# Altium footprint library NGFF-SMD_APCI0078-P002A.PcbLib: 1 footprints
Each footprint in its own frame and in the unit in brackets; x right, y up, seen from the top. Pads: shape width x height; smd on the part's side, far side on the other; paste and mask are expansions set on the pad; w line width, h text height; cw(c..) or ccw(c..) is an arc to the next point about the centre after c.
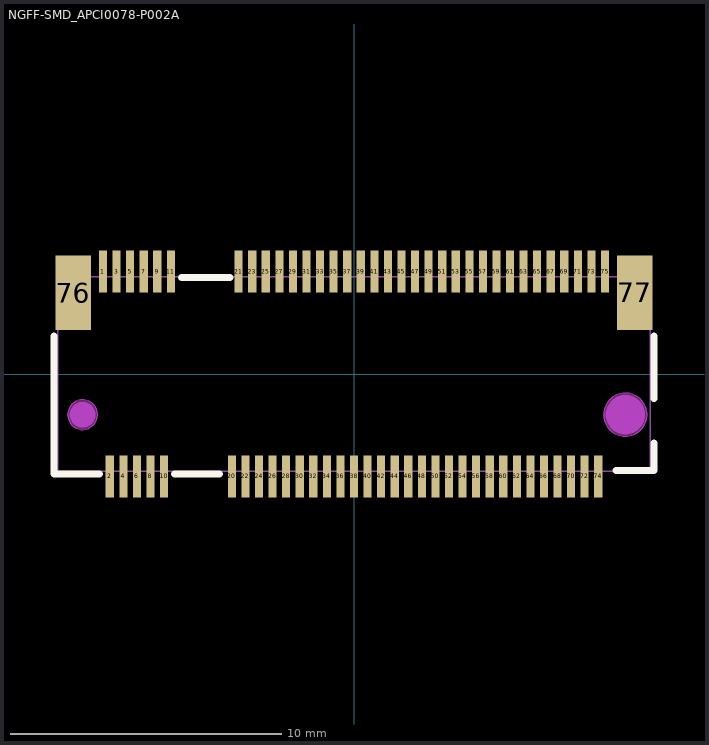
[diagram p0: the footprint, top view; thin cyan lines are the x and y axes]

## NGFF-SMD_APCI0078-P002A [mm]
pads (69):
  rect 0.3x1.55 smd: 1(-9.25,3.775) 2(-9,-3.775) 3(-8.75,3.775) 4(-8.5,-3.775) 5(-8.25,3.775) 6(-8,-3.775) 7(-7.75,3.775) 8(-7.5,-3.775) 9(-7.25,3.775) 10(-7,-3.775) 11(-6.75,3.775) 20(-4.5,-3.775) 21(-4.25,3.775) 22(-4,-3.775) 23(-3.75,3.775) 24(-3.5,-3.775) 25(-3.25,3.775) 26(-3,-3.775) 27(-2.75,3.775) 28(-2.5,-3.775) 29(-2.25,3.775) 30(-2,-3.775) 31(-1.75,3.775) 32(-1.5,-3.775) 33(-1.25,3.775) 34(-1,-3.775) 35(-0.75,3.775) 36(-0.5,-3.775) 37(-0.25,3.775) 38(0,-3.775) 39(0.25,3.775) 40(0.5,-3.775) 41(0.75,3.775) 42(1,-3.775) 43(1.25,3.775) 44(1.5,-3.775) 45(1.75,3.775) 46(2,-3.775) 47(2.25,3.775) 48(2.5,-3.775) 49(2.75,3.775) 50(3,-3.775) 51(3.25,3.775) 52(3.5,-3.775) 53(3.75,3.775) 54(4,-3.775) 55(4.25,3.775) 56(4.5,-3.775) 57(4.75,3.775) 58(5,-3.775) 59(5.25,3.775) 60(5.5,-3.775) 61(5.75,3.775) 62(6,-3.775) 63(6.25,3.775) 64(6.5,-3.775) 65(6.75,3.775) 66(7,-3.775) 67(7.25,3.775) 68(7.5,-3.775) 69(7.75,3.775) 70(8,-3.775) 71(8.25,3.775) 72(8.5,-3.775) 73(8.75,3.775) 74(9,-3.775) 75(9.25,3.775)
  rect 1.3x2.75 smd: 76(-10.35,3) 77(10.35,3)
Top Overlay:
  lines w0.254: -11.049,1.397 -11.049,-3.683 -9.381,-3.683 ; -6.619,-3.683 -4.953,-3.683 ; -6.35,3.556 -4.572,3.556 ; 9.652,-3.556 11.049,-3.556 11.049,-2.54 ; 11.049,-0.912 11.049,1.399
Keep-Out Layer:
  board cut-out: -9.439,-1.5 -9.482,-1.285 -9.603,-1.103 -9.785,-0.982 -10,-0.939 -10.215,-0.982 -10.397,-1.103 -10.518,-1.285 -10.561,-1.5 -10.518,-1.715 -10.397,-1.896 -10.215,-2.018 -10,-2.061 -9.785,-2.018 -9.603,-1.896 -9.482,-1.715 -9.439,-1.5
  board cut-out: 10.807,-1.5 10.779,-1.291 10.699,-1.096 10.571,-0.929 10.403,-0.801 10.209,-0.72 10,-0.693 9.791,-0.72 9.596,-0.801 9.429,-0.929 9.301,-1.096 9.221,-1.291 9.193,-1.5 9.221,-1.709 9.301,-1.903 9.429,-2.07 9.596,-2.199 9.791,-2.279 10,-2.307 10.209,-2.279 10.403,-2.199 10.571,-2.07 10.699,-1.903 10.779,-1.709 10.807,-1.5
Mechanical 1:
  circle w0.005: c-10,-1.5 r0.55
  circle w0.005: c10,-1.5 r0.8
Mechanical 6:
  circle w0.725: c10,-1.5 r0.363
  circle w0.475: c-10,-1.5 r0.238
Mechanical 15:
  drawing of 74 lines, arcs and shapes, not listed
Multi-Layer:
  pour cut-out: -9.439,-1.5 -9.482,-1.285 -9.603,-1.103 -9.785,-0.982 -10,-0.939 -10.215,-0.982 -10.397,-1.103 -10.518,-1.285 -10.561,-1.5 -10.518,-1.715 -10.397,-1.896 -10.215,-2.018 -10,-2.061 -9.785,-2.018 -9.603,-1.896 -9.482,-1.715 -9.439,-1.5
  pour cut-out: 10.807,-1.5 10.779,-1.291 10.699,-1.096 10.571,-0.929 10.403,-0.801 10.209,-0.72 10,-0.693 9.791,-0.72 9.596,-0.801 9.429,-0.929 9.301,-1.096 9.221,-1.291 9.193,-1.5 9.221,-1.709 9.301,-1.903 9.429,-2.07 9.596,-2.199 9.791,-2.279 10,-2.307 10.209,-2.279 10.403,-2.199 10.571,-2.07 10.699,-1.903 10.779,-1.709 10.807,-1.5